# EAGLE library part CONN_2X04_COL (library GPLIB_CONN)
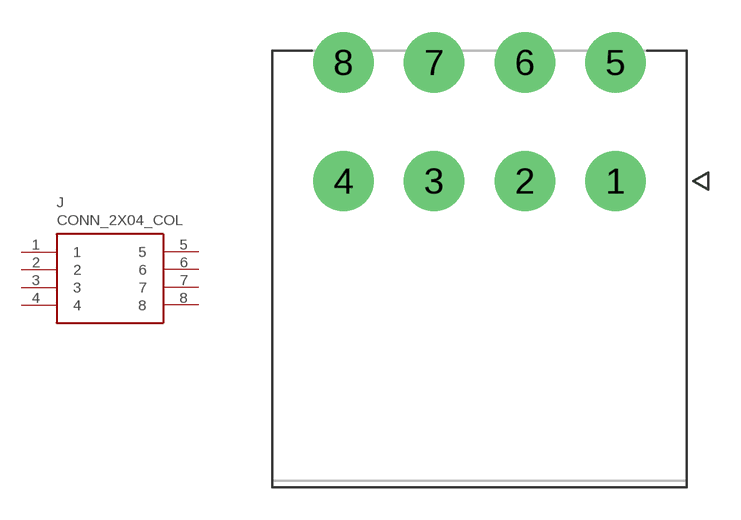
[diagram p20: symbol with the pads of CONN_2X04_4.2MM_TH_RA_MX_874270802; footprint CONN_2X04_4.2MM_TH_RA_MX_874270802]

Designator prefix J

## CONN_2X04_COL_4.2MM_TH_RA_MX_874270802  [CONN_2X04_4.2MM_TH_RA_MX_874270802]
1  1  pas
2  2  pas
3  3  pas
4  4  pas
5  5  pas
6  6  pas
7  7  pas
8  8  pas

## CONN_2X04_COL_4.2MM_TH_RA_HC-5557-2*4AW  [CONN_2X04_4.2MM_TH_RA_MX_874270802]
Pads as for CONN_2X04_4.2MM_TH_RA_MX_874270802

## Footprint CONN_2X04_4.2MM_TH_RA_MX_874270802 (pad centres in mm)
drill 1.8 pad 2.8: 1 6.3,-2.75; 2 2.1,-2.75; 3 -2.1,-2.75; 4 -6.3,-2.75; 5 6.3,2.75; 6 2.1,2.75; 7 -2.1,2.75; 8 -6.3,2.75